# EAGLE library part UMS (library ftdichip)
Asix - UMS USB-UART Wrapper Module UMS3 is an USB->Serial interface module based on the powerful FT232RL chip made by FTDI. It enables very easy connection of the user's application to the PC via the USB port, without necessity of any deep knowledge about the complicated USB problematics. On the USB side of UMS3 there are 2 signals D+ and D-, on the opposite side there are the serial port signals (in the TTL level) with full data flow control. UMS3 is capable to transfer data at speeds up to 3 MBaud. UMS3 contains the on-chip EEPROM for storing the ID data (VID, PID, ID string) and the non-rewritable unique Serial number. UMS3 is manufactured as a DIP24 device with standard pin distance of 2.54 mm (0.1"). It can be put into standard or precision DIP socket or it can be directly soldered to user application PCB. It saves time and money in small medium volume production. The USB connector is to be connected separately, the designer has flexibility in the PCB layout and mechanical design in comparison to modules with built-in USB connector. Also, the A-type, B-type connector or even cable can be used. The UMS3 module supports all powerful features of the FT232R chip like BitBang mode, FTDIChip-ID? Security Dongle, Clock Generator Output, etc.). Another big feature is a 1.8 ... 5 V interface capability. After some minor changes in a target board, the UMS3 module can be used as an older UMS1 module replacement. The procedure is decribed in the User's Guide at http://www.asix.info.
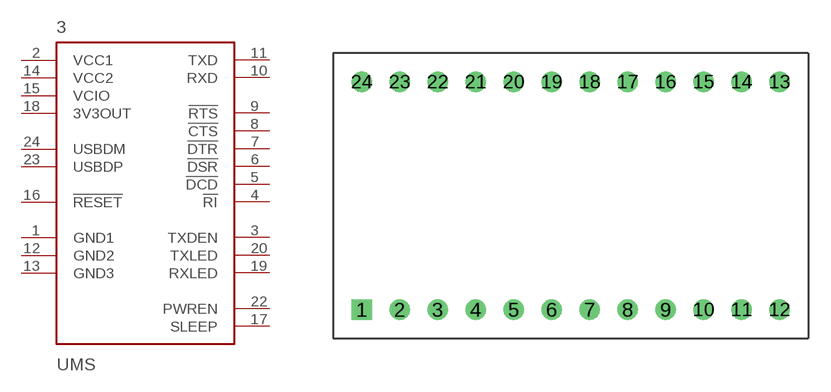
[diagram p7: symbol with the pads of DIL-24; footprint DIL-24]

Designator prefix 3

## UMS3  [DIL-24]
1  GND1  sup
2  VCC1  pwr
3  TXDEN  out
4  !RI  in
5  !DCD  in
6  !DSR  in
7  !DTR  out
8  !CTS  in
9  !RTS  out
10  RXD  in
11  TXD  out
12  GND2  sup
13  GND3  in
14  VCC2
15  VCIO  in
16  !RESET  in
17  SLEEP  out
18  3V3OUT  out
19  RXLED  oc
20  TXLED  oc
22  PWREN  out
23  USBDP
24  USBDM

## Footprint DIL-24 (pad centres in mm)
Package DIL-24
drill 0.813 pad 1.397 square: 1 -13.97,-7.62
drill 0.813 pad 1.397 round: 2 -11.43,-7.62; 3 -8.89,-7.62; 4 -6.35,-7.62; 5 -3.81,-7.62; 6 -1.27,-7.62; 7 1.27,-7.62; 8 3.81,-7.62; 9 6.35,-7.62; 10 8.89,-7.62; 11 11.43,-7.62; 12 13.97,-7.62; 13 13.97,7.62; 14 11.43,7.62; 15 8.89,7.62; 16 6.35,7.62; 17 3.81,7.62; 18 1.27,7.62; 19 -1.27,7.62; 20 -3.81,7.62; 21 -6.35,7.62; 22 -8.89,7.62; 23 -11.43,7.62; 24 -13.97,7.62